# Altium schematic symbol library ToradexMainBoard-V0I1.SCHLIB: 303 symbols (part 1 of 14)
Pins are listed as number, name and electrical type; pins without a type are passive.

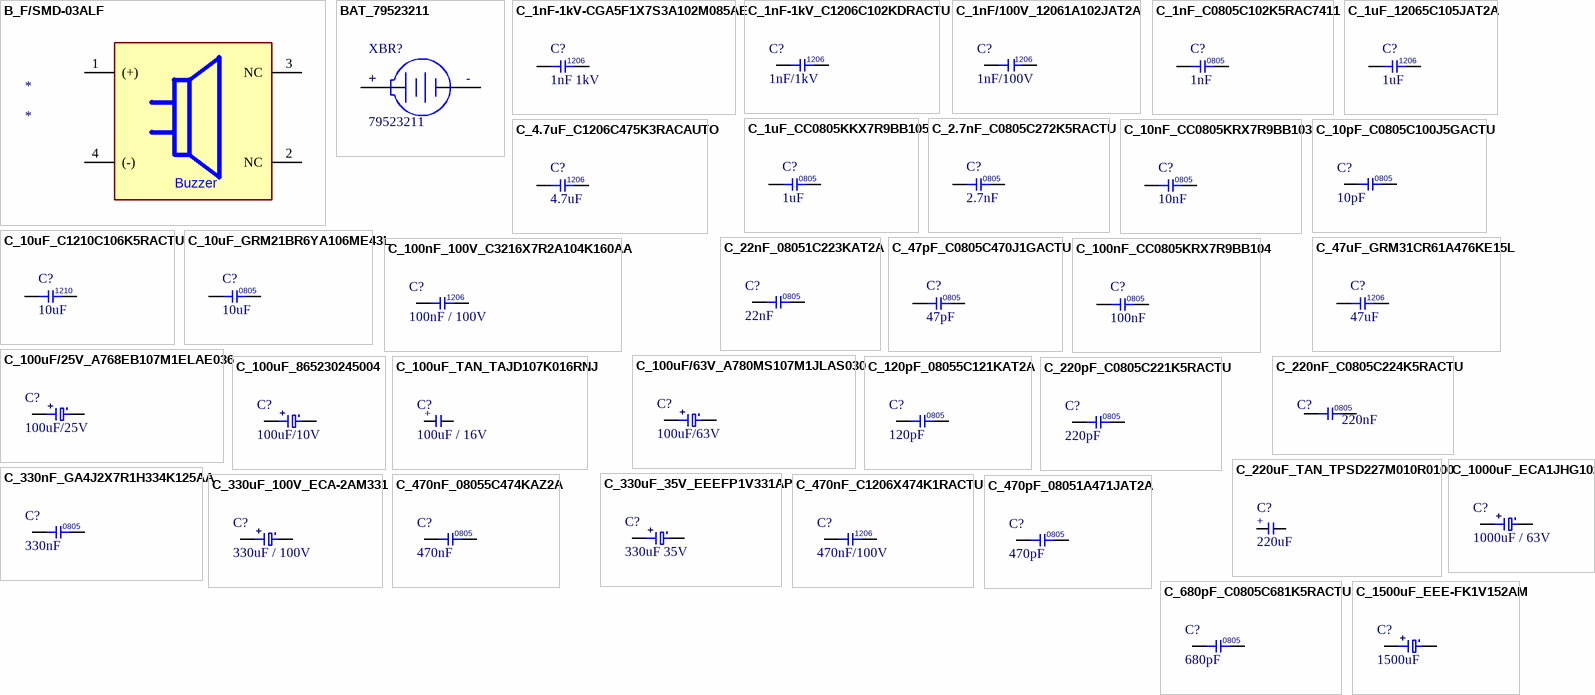
[diagram p0: symbols B_F/SMD-03ALF to C_1500uF_EEE-FK1V152AM]

## B_F/SMD-03ALF
designator *
footprint F/SMD-03_Buzzer
pins: 1 (+), 2 NC, 3 NC, 4 (-)
text: Buzzer

## BAT_79523211
designator XBR?, comment 79523211
BATTERY RETAINER COIN PC PIN THT for 2016, 2020, 2025 2032.; Manufacturer: Wurth Electronics; Number of Cells: 1; PCBChecked: initials after Checked; Supplier 1: Digi-Key; Manufacturer Part Number: 79523211; RoHS: No; Mount: Through Hole,PCB; Termination: PC Pin; ComponentLink1URL: https://datasheet.ciiva.com/70868/79523211-70868826.pdf?src-supplier=Digi-Key; ComponentLink1Description: https://datasheet.ciiva.com/70868/79523211-70868826.pdf?src-supplier=Digi-Key; Supplier Part Number 1: 732-12324-ND; Stock 1: 697; IPC7352C: done; SCHChecked: Initials after checked
footprint BAT_79523211-with-Battery (Battery Holder, Battery Type: 2016,2020,2025,2032)
pins: 1 +, 2 -

## C_1nF-1kV-CGA5F1X7S3A102M085AE
designator C?, comment 1nF 1kV
CAP CER 1000PF 1KV X7S 1206; Manufacturer: TDK; Manufacturer Part Number: CGA5F1X7S3A102M085AE; Tolerance: 20%; Supplier 1: Mouser; RoHS: Yes; Category: Ceramic Capacitors; Stock 1: 11858; Pricing 1: 1=0,94000, 10=0,71800, 100=0,51400, 500=0,39800, 1000=0,34300, 4000=0,25700 (USD); Mount: Surface Mount; Case/Package: 1206; Weight: 0.000571oz; Case Code (Imperial): 1206; Case Code (Metric): 3216; Min Operating Temperature: -55°C; Max Operating Temperature: 125°C; Features: Soft Termination; Dielectric: X7S; Package Quantity: 4000; Packaging: Tape and Reel; Capacitance: 1nF; Voltage Rating: 1kV; Termination: SMD/SMT; Voltage Rating (DC): 1kV; Length: 0.126inch; Height: 0.85mm; Width: 0.063inch; Thickness: 0.039inch; Ratings: AEC-Q200; ComponentLink1URL: http://www.mouser.com/ds/2/400/lcc_commercial_soft_en-775842.pdf?src-supplier=Mouser; ComponentLink1Description: http://www.mouser.com/ds/2/400/lcc_commercial_soft_en-775842.pdf?src-supplier=Mouser; ComponentLink2URL: https://product.tdk.com/info/en/catalog/spec/mlccspec_automotive_highvoltage_en.pdf?src-supplier=Digi-Key; ComponentLink2Description: https://product.tdk.com/info/en/catalog/spec/mlccspec_automotive_highvoltage_en.pdf?src-supplier=Digi-Key; ComponentLink3URL: https://product.tdk.com/info/en/catalog/datasheets/mlcc_automotive_highvoltage_en.pdf?src-supplier=Digi-Key; ComponentLink3Description: https://product.tdk.com/info/en/catalog/datasheets/mlcc_automotive_highvoltage_en.pdf?src-supplier=Digi-Key; ComponentLink4URL: http://product.tdk.com/capacitor/mlcc/en/documents/mlcc_automotive_soft_en.pdf?src-supplier=Avnet; ComponentLink4Description: http://product.tdk.com/capacitor/mlcc/en/documents/mlcc_automotive_soft_en.pdf?src-supplier=Avnet; Supplier Part Number 1: 810-CGA5F1X7S3A102ME
footprint C1206 (Chip Capacitor, 2-Leads, Body 3,35x2,50mm, IPC Medium Density)
pins: 1, 2

## C_1nF-1kV_C1206C102KDRACTU
designator C?, comment 1nF/1kV
Capacitor Ceramic 0.001uF 1000 Volt X7R 10% Surface Mount 1206 125C Plastic; Manufacturer: KEMET; Manufacturer Part Number: C1206C102KDRACTU; Capacitance: 1nF; Voltage Rating (DC): 1.5kV; Voltage: 2kV; Voltage Rating: 1kV; Supplier 1: Farnell; RoHS: Yes; Category: Ceramic Capacitors; Stock 1: 70088; Pricing 1: 5=0,23900, 50=0,12400, 250=0,09660, 500=0,06910 (EUR); Mount: Surface Mount; Case/Package: 1206; Number of Pins: 2; Dielectric Material: Ceramic; Case Code (Imperial): 1206; Case Code (Metric): 3216; Min Operating Temperature: -55°C; Max Operating Temperature: 125°C; Packaging: Tape and Reel; Tolerance: 10%; Dielectric: X7R; Package Quantity: 1; Termination: SMD/SMT; Series: C; Construction: Flat; Length: 3.2mm; Width: 0.063inch; Height: 1.2mm; Depth: 1.6mm; Thickness: 0.053inch; Lead Pitch: 1.5mm; Radiation Hardening: No; REACH SVHC: No SVHC; RoHS Compliant: Yes; ComponentLink1URL: https://datasheet.ciiva.com/18194/getdatasheetpartid-320277-18194094.pdf?src-supplier=Verical; ComponentLink1Description: https://datasheet.ciiva.com/18194/getdatasheetpartid-320277-18194094.pdf?src-supplier=Verical; ComponentLink2URL: https://datasheet.ciiva.com/19476/1567931-19476446.pdf?src-supplier=Jameco; ComponentLink2Description: https://datasheet.ciiva.com/19476/1567931-19476446.pdf?src-supplier=Jameco; ComponentLink3URL: https://datasheet.ciiva.com/28672/1807957-28672853.pdf?src-supplier=Element14; ComponentLink3Description: https://datasheet.ciiva.com/28672/1807957-28672853.pdf?src-supplier=Element14; ComponentLink4URL: https://datasheet.ciiva.com/22700/1812017-22700535.pdf?src-supplier=Element14; ComponentLink4Description: https://datasheet.ciiva.com/22700/1812017-22700535.pdf?src-supplier=Element14; ComponentLink5URL: https://datasheet.ciiva.com/28610/1918693-28610894.pdf?src-supplier=Element14; ComponentLink5Description: https://datasheet.ciiva.com/28610/1918693-28610894.pdf?src-supplier=Element14; ComponentLink6URL: https://datasheet.ciiva.com/5904/kem-c1002-x7r-smd-5904927.pdf?src-supplier=Farnell; ComponentLink6Description: https://datasheet.ciiva.com/5904/kem-c1002-x7r-smd-5904927.pdf?src-supplier=Farnell; Supplier Part Number 1: 1826304
footprint R1206
pins: 1, 2

## C_1nF/100V_12061A102JAT2A
designator C?, comment 1nF/100V
Cap Ceramic 0.001uF 100V C0G 5% SMD 1206 125 Paper T/R; Manufacturer: Kyocera AVX; Manufacturer Part Number: 12061A102JAT2A; Capacitance: 1nF; Insulation Resistance: 100GR; Temperature Coefficient: 30ppm/°C; Dissipation Factor: 2.5%; Supplier 1: Farnell; RoHS: Yes; Category: Ceramic Capacitors; Stock 1: 20000; Pricing 1: 4000=0,05250, 20000=0,05150 (EUR); Mount: Surface Mount,PCB; Case/Package: 1206; Number of Pins: 2; Case Code (Imperial): 1206; Case Code (Metric): 3216; Contact Plating: Tin,Matte; Min Operating Temperature: -55°C; Max Operating Temperature: 125°C; Tolerance: 5%; Dielectric: C0G; Packaging: Tape and Reel; Voltage Rating (DC): 100V; Voltage: 100V; Voltage Rating: 100V; Package Quantity: 1; Termination: SMD/SMT; Series: -; Construction: Flat; Length: 3.2mm; Width: 1.6mm; Height: 0.5mm; Depth: 1.6mm; Thickness: 0.037inch; Size: 0.94mm; Radiation Hardening: No; REACH SVHC: No SVHC; Lead Free: Lead Free; RoHS Compliant: Yes; ComponentLink1URL: https://datasheet.ciiva.com/11787/0900766b802d4697-11787576.pdf?src-supplier=RSComponents; ComponentLink1Description: https://datasheet.ciiva.com/11787/0900766b802d4697-11787576.pdf?src-supplier=RSComponents; ComponentLink2URL: https://datasheet.ciiva.com/19476/2012241-19476248.pdf?src-supplier=Jameco; ComponentLink2Description: https://datasheet.ciiva.com/19476/2012241-19476248.pdf?src-supplier=Jameco; ComponentLink3URL: https://datasheet.ciiva.com/11510/ccog-11510998.pdf?src-supplier=Avnet; ComponentLink3Description: https://datasheet.ciiva.com/11510/ccog-11510998.pdf?src-supplier=Avnet; ComponentLink4URL: https://datasheet.ciiva.com/5419/ccog-243403-5419032.pdf?src-supplier=Mouser; ComponentLink4Description: https://datasheet.ciiva.com/5419/ccog-243403-5419032.pdf?src-supplier=Mouser; ComponentLink5URL: https://datasheet.ciiva.com/16389/ccog-16389160.pdf?src-supplier=Future+Electronics; ComponentLink5Description: https://datasheet.ciiva.com/16389/ccog-16389160.pdf?src-supplier=Future+Electronics; ComponentLink6URL: https://datasheet.ciiva.com/16623/ccog-16623432.pdf?src-supplier=Avnet+Europe; ComponentLink6Description: https://datasheet.ciiva.com/16623/ccog-16623432.pdf?src-supplier=Avnet+Europe; ComponentLink7URL: https://datasheet.ciiva.com/28621/cpack-28621080.pdf?src-supplier=Element14; ComponentLink7Description: https://datasheet.ciiva.com/28621/cpack-28621080.pdf?src-supplier=Element14; ComponentLink8URL: https://datasheet.ciiva.com/153/ccog-153403.pdf?src-supplier=Digi-Key; ComponentLink8Description: https://datasheet.ciiva.com/153/ccog-153403.pdf?src-supplier=Digi-Key; ComponentLink9URL: https://datasheet.ciiva.com/153/ccog-153404.pdf?src-supplier=Digi-Key; ComponentLink9Description: https://datasheet.ciiva.com/153/ccog-153404.pdf?src-supplier=Digi-Key; ComponentLink10URL: https://datasheet.ciiva.com/153/ccog-153405.pdf?src-supplier=Digi-Key; ComponentLink10Description: https://datasheet.ciiva.com/153/ccog-153405.pdf?src-supplier=Digi-Key; Supplier Part Number 1: 2281031
footprint C1206
pins: 1, 2

## C_1nF_C0805C102K5RAC7411
designator C?, comment 1nF
Multilayer Ceramic Capacitors MLCC - SMD/SMT 50volts 1000pF X7R 10%; Manufacturer: KEMET; Manufacturer Part Number: C0805C102K5RAC7411; Voltage Rating: 50V; RoHS: Yes; Category: Ceramic Capacitors; Stock 1: 30000; Pricing 1: 15000=0,01862, 30000=0,01764 (USD); Mount: Surface Mount; Case/Package: 0805; Case Code (Metric): 2012; Case Code (Imperial): 0805; Dielectric Material: Ceramic; Min Operating Temperature: -55°C; Max Operating Temperature: 125°C; Termination: SMD/SMT; Capacitance: 1nF; Package Quantity: 15000; Voltage Rating (DC): 50V; Tolerance: 10%; Packaging: Tape and Reel; Dielectric: X7R; Length: 0.079inch; Height: 0.78mm; Thickness: 0.035inch; Width: 0.049inch; ComponentLink1URL: http://components.arrow.com/part/dataview/0323_00324664?src-supplier=Arrow+Europe; ComponentLink1Description: http://components.arrow.com/part/dataview/0323_00324664?src-supplier=Arrow+Europe; ComponentLink2URL: http://www.mouser.com/ds/2/212/KEM_C1002_X7R_SMD-1102033.pdf?src-supplier=Mouser; ComponentLink2Description: http://www.mouser.com/ds/2/212/KEM_C1002_X7R_SMD-1102033.pdf?src-supplier=Mouser; ComponentLink3URL: https://api.kemet.com/component-edge/download/datasheet/C0805C102K5RAC7411.pdf?src-supplier=Digi-Key; ComponentLink3Description: https://api.kemet.com/component-edge/download/datasheet/C0805C102K5RAC7411.pdf?src-supplier=Digi-Key; Supplier 1: Digi-Key; Supplier Part Number 1: 311-1127-1-ND
footprint C0805 (Chip Capacitor, 2-Leads, Body 2,00x1,25mm, IPC Medium Density)
pins: 1, 2

## C_1uF_12065C105JAT2A
designator C?, comment 1uF
CERAMIC CAPACITOR, 1UF, 50V, X7R, 5%, 1206, FULL REEL; Product Range:-; Capacitance:1 F; Capacitance Tolerance: 5%; Dielectric Characteristic:X7R; Voltage Rating:50V; Ceramic Capacitor Case:1206 [3216 Metric]; Packaging:Tape & Reel ;RoHS Compliant: Yes; Manufacturer Part Number: 12065C105JAT2A; Manufacturer: Kyocera AVX; Dissipation Factor: 2.5%; Supplier 1: Digi-Key; RoHS: Yes; Category: Ceramic Capacitors; Mount: Surface Mount; Case/Package: 1206; Number of Pins: 2; Case Code (Metric): 3216; Case Code (Imperial): 1206; Min Operating Temperature: -55°C; Max Operating Temperature: 125°C; Dielectric: X7R; Capacitance: 1uF; Tolerance: 5%; Voltage Rating: 50V; Packaging: Tape and Reel; Package Quantity: 2000; Voltage Rating (DC): 50V; Termination: SMD/SMT; Length: 3.2mm; Height: 1.78mm; Width: 0.063inch; Thickness: 0.07inch; Depth: 1.6mm; Radiation Hardening: No; REACH SVHC: No SVHC; Lead Free: Lead Free; ComponentLink1URL: https://datasheet.ciiva.com/218/cx7r-218525.pdf?src-supplier=Digi-Key; ComponentLink1Description: https://datasheet.ciiva.com/218/cx7r-218525.pdf?src-supplier=Digi-Key; ComponentLink2URL: https://datasheet.ciiva.com/5422/cx7r-218113-5422269.pdf?src-supplier=Mouser; ComponentLink2Description: https://datasheet.ciiva.com/5422/cx7r-218113-5422269.pdf?src-supplier=Mouser; ComponentLink3URL: https://datasheet.ciiva.com/11531/cx7r-11531662.pdf?src-supplier=Avnet; ComponentLink3Description: https://datasheet.ciiva.com/11531/cx7r-11531662.pdf?src-supplier=Avnet; Supplier Part Number 1: 478-10884-1-ND; Stock 1: 10741
footprint C1206 (Chip Capacitor, 2-Leads, Body 3,35x2,50mm, IPC Medium Density)
pins: 1, 2

## C_1uF_CC0805KKX7R9BB105
designator C?, comment 1uF
Cap Ceramic 1uF 50V X7R 10% SMD 0805 125C Blister T/R; Manufacturer Part Number: CC0805KKX7R9BB105; Manufacturer: Yageo; PCBChecked: initials after Checked; Supplier 1: Digi-Key; RoHS: Yes; Category: Ceramic Capacitors; Mount: Surface Mount; Case/Package: 0805; Weight: 0.000194oz; Case Code (Imperial): 0805; Case Code (Metric): 2012; Min Operating Temperature: -55°C; Max Operating Temperature: 125°C; Tolerance: 10%; Dielectric: X7R; Packaging: Tape and Reel; Capacitance: 1uF; Voltage Rating: 50V; Voltage Rating (DC): 50V; Termination: SMD/SMT; Composition: Ceramic; Length: 2mm; Height: 1.25mm; Width: 0.049inch; Thickness: 0.057inch; Depth: 1.25mm; Radiation Hardening: No; Lead Free: Lead Free; Halogen Free: Halogen Free; ComponentLink1URL: https://datasheet.ciiva.com/13209/upy-gphc-x7r-6-3v-to-50v-8-12304-13209375.pdf?src-supplier=Mouser; ComponentLink1Description: https://datasheet.ciiva.com/13209/upy-gphc-x7r-6-3v-to-50v-8-12304-13209375.pdf?src-supplier=Mouser; Supplier Part Number 1: 311-1886-6-ND; Stock 1: 325114; IPC7352C: done; SCHChecked: Initials after checked
footprint C0805 (Chip Capacitor, 2-Leads, Body 2,00x1,25mm, IPC Medium Density)
pins: 1, 2

## C_2.7nF_C0805C272K5RACTU
designator C?, comment 2.7nF
KEMET         C0805C272K5RACTU             SMD Multilayer Ceramic Capacitor, 0805 [2012 Metric], 2700 pF, 50 V,  10%, X7R, C Series; Voltage Rating: 50V; Dissipation Factor: 2.5%; Supplier 1: Digi-Key; Manufacturer: KEMET; Manufacturer Part Number: C0805C272K5RACTU; RoHS: Yes; Category: Ceramic Capacitors; Stock 1: 17634; Pricing 1: 1=0,21000, 10=0,14200, 100=0,07210, 500=0,04934, 1000=0,04364 (USD); Mount: Surface Mount,PCB; Case/Package: 0805; Number of Pins: 2; Dielectric Material: Ceramic; Case Code (Imperial): 0805; Case Code (Metric): 2012; Min Operating Temperature: -55°C; Max Operating Temperature: 125°C; Capacitance: 2.7nF; Tolerance: 10%; Packaging: Tape and Reel; Voltage Rating (DC): 50V; Dielectric: X7R; Termination: SMD/SMT; Package Quantity: 4000; Voltage: 50V; Length: 2mm; Height: 0.78mm; Width: 1.2mm; Lead Pitch: 0.75mm; Depth: 1.25mm; Thickness: 0.035inch; Radiation Hardening: No; REACH SVHC: No SVHC; ComponentLink1URL: https://datasheet.ciiva.com/14589/70095383-14589404.pdf?src-supplier=Allied+Electronics; ComponentLink1Description: https://datasheet.ciiva.com/14589/70095383-14589404.pdf?src-supplier=Allied+Electronics; Supplier Part Number 1: 399-1152-1-ND
footprint C0805 (Chip Capacitor, 2-Leads, Body 2,00x1,25mm, IPC Medium Density)
pins: 1, 2

## C_4.7uF_C1206C475K3RACAUTO
designator C?, comment 4.7uF
KEMET - C1206C475K3RACAUTO - SMD Multilayer Ceramic Capacitor, AEC-Q200, 4.7 µF, 25 V, 1206 [3216 Metric], ± 10%, X7R; Voltage Rating: 25V; Supplier 1: Digi-Key; Manufacturer Part Number: C1206C475K3RACAUTO; RoHS: Yes; Category: Ceramic Capacitors; Mount: Surface Mount; Case/Package: 1206; Case Code (Imperial): 1206; Case Code (Metric): 3216; Dielectric Material: Ceramic; Contact Plating: Tin,Matte; Min Operating Temperature: -55°C; Max Operating Temperature: 125°C; Package Quantity: 1; Capacitance: 4.7uF; Tolerance: 10%; Packaging: Cut Tape; Voltage Rating (DC): 25V; Dielectric: X7R; Length: 3.2mm; Height: 1.6mm; Width: 0.063inch; Thickness: 0.071inch; Depth: 1.6mm; Ratings: AEC-Q200; Radiation Hardening: No; REACH SVHC: No SVHC; ComponentLink1URL: https://datasheet.ciiva.com/7729/1788389-7729946.pdf?src-supplier=Element14; ComponentLink1Description: https://datasheet.ciiva.com/7729/1788389-7729946.pdf?src-supplier=Element14; ComponentLink2URL: https://datasheet.ciiva.com/22699/1788389-22699772.pdf?src-supplier=Element14; ComponentLink2Description: https://datasheet.ciiva.com/22699/1788389-22699772.pdf?src-supplier=Element14; Supplier Part Number 1: 399-7029-6-ND; Manufacturer: KEMET; Stock 1: 70225
footprint C1206 (Chip Capacitor, 2-Leads, Body 3,35x2,50mm, IPC Medium Density)
pins: 1, 2

## C_10nF_CC0805KRX7R9BB103
designator C?, comment 10nF
YAGEO - CC0805KRX7R9BB103 - SMD Multilayer Ceramic Capacitor, 10000 pF, 50 V, 0805 [2012 Metric], ± 10%, X7R, CC Series; Voltage Rating: 50V; Insulation Resistance: 100GR; Supplier 1: Digi-Key; Manufacturer: Yageo; Manufacturer Part Number: CC0805KRX7R9BB103; RoHS: Yes; Category: Ceramic Capacitors; Stock 1: 6490145; Pricing 1: 1=0,11000, 10=0,07700, 100=0,03440, 500=0,02456, 1000=0,01930 (USD); Mount: Surface Mount; Case/Package: 0805; Number of Pins: 2; Case Code (Imperial): 0805; Case Code (Metric): 2012; Material: Ceramic; Min Operating Temperature: -55°C; Max Operating Temperature: 125°C; Packaging: Tape and Reel; Capacitance: 10nF; Tolerance: 10%; Package Quantity: 1; Voltage Rating (DC): 50V; Dielectric: X7R; Termination: SMD/SMT; Composition: Ceramic; Voltage: 50V; Length: 2mm; Height: 0.6mm; Width: 1.25mm; Thickness: 0.024inch; Depth: 1.25mm; Radiation Hardening: No; REACH SVHC: No SVHC; Lead Free: Lead Free; Halogen Free: Halogen Free; ComponentLink1URL: https://datasheet.ciiva.com/11786/0900766b80d84f1d-11786119.pdf?src-supplier=RSComponents; ComponentLink1Description: https://datasheet.ciiva.com/11786/0900766b80d84f1d-11786119.pdf?src-supplier=RSComponents; ComponentLink2URL: https://datasheet.ciiva.com/25613/0900766b8027bcf6-25613113.pdf?src-supplier=RSComponents; ComponentLink2Description: https://datasheet.ciiva.com/25613/0900766b8027bcf6-25613113.pdf?src-supplier=RSComponents; ComponentLink3URL: https://datasheet.ciiva.com/144/mlccorderingcode-144532.pdf?src-supplier=Digi-Key; ComponentLink3Description: https://datasheet.ciiva.com/144/mlccorderingcode-144532.pdf?src-supplier=Digi-Key; ComponentLink4URL: https://datasheet.ciiva.com/144/mlccorderingcode-144533.pdf?src-supplier=Digi-Key; ComponentLink4Description: https://datasheet.ciiva.com/144/mlccorderingcode-144533.pdf?src-supplier=Digi-Key; ComponentLink5URL: https://datasheet.ciiva.com/144/mlccorderingcode-144534.pdf?src-supplier=Digi-Key; ComponentLink5Description: https://datasheet.ciiva.com/144/mlccorderingcode-144534.pdf?src-supplier=Digi-Key; ComponentLink6URL: https://datasheet.ciiva.com/16625/upy-gphc-x7r-6-3v-to-50v-8-16625548.pdf?src-supplier=Avnet+Europe; ComponentLink6Description: https://datasheet.ciiva.com/16625/upy-gphc-x7r-6-3v-to-50v-8-16625548.pdf?src-supplier=Avnet+Europe; ComponentLink7URL: https://datasheet.ciiva.com/46372/1784427-46372638.pdf?src-supplier=Element14; ComponentLink7Description: https://datasheet.ciiva.com/46372/1784427-46372638.pdf?src-supplier=Element14; Supplier Part Number 1: 311-1136-1-ND
footprint C0805 (Chip Capacitor, 2-Leads, Body 2,00x1,25mm, IPC Medium Density)
pins: 1, 2

## C_10pF_C0805C100J5GACTU
designator C?, comment 10pF
KEMET - C0805C100J5GACTU - SMD Multilayer Ceramic Capacitor, 10 pF, 50 V, 0805 [2012 Metric], ± 5%, C0G / NP0, C Series KEMET; Voltage Rating: 50V; Dissipation Factor: 0.1%; Temperature Coefficient: 30ppm/°C; Supplier 1: Farnell; Manufacturer: KEMET; Manufacturer Part Number: C0805C100J5GACTU; RoHS: Yes; Category: Ceramic Capacitors; Stock 1: 40000; Pricing 1: 4000=0,01400 (EUR); Mount: PCB,Surface Mount; Case/Package: 0805; Number of Pins: 2; Case Code (Metric): 2012; Case Code (Imperial): 0805; Dielectric Material: Ceramic; Contact Plating: Tin,Matte; Contact Material: Tin; Min Operating Temperature: -55°C; Max Operating Temperature: 125°C; Capacitance: 10pF; Package Quantity: 4000; Packaging: Tape and Reel; Dielectric: C0G; Voltage Rating (DC): 50V; Termination: SMD/SMT; Tolerance: 5%; Series: C0805C; Construction: Flat; Voltage: 50V; Length: 2mm; Width: 1.2mm; Height: 0.78mm; Thickness: 0.035inch; Depth: 1.25mm; Lead Pitch: 0.75mm; Radiation Hardening: No; RoHS Compliant: Yes; Lead Free: Lead Free; REACH SVHC: No SVHC; ComponentLink1URL: https://datasheet.ciiva.com/6177/kem-c1003-c0g-smd-6177333.pdf?src-supplier=Farnell; ComponentLink1Description: https://datasheet.ciiva.com/6177/kem-c1003-c0g-smd-6177333.pdf?src-supplier=Farnell; ComponentLink2URL: https://datasheet.ciiva.com/5423/kem-c1003-c0g-smd-356956-5423483.pdf?src-supplier=Mouser; ComponentLink2Description: https://datasheet.ciiva.com/5423/kem-c1003-c0g-smd-356956-5423483.pdf?src-supplier=Mouser; ComponentLink3URL: https://datasheet.ciiva.com/14609/70095383-14609227.pdf?src-supplier=Allied+Electronics; ComponentLink3Description: https://datasheet.ciiva.com/14609/70095383-14609227.pdf?src-supplier=Allied+Electronics; ComponentLink4URL: https://datasheet.ciiva.com/2988/kem-c1003-c0g-smd-2988556.pdf?src-supplier=Avnet; ComponentLink4Description: https://datasheet.ciiva.com/2988/kem-c1003-c0g-smd-2988556.pdf?src-supplier=Avnet; Supplier Part Number 1: 2392177
footprint C0805
pins: 1, 2

## C_10uF_C1210C106K5RACTU
designator C?, comment 10uF
CAP CER 10UF 50V X7R 1210; Manufacturer: KEMET; Manufacturer Part Number: C1210C106K5RACTU; Dielectric Material: Ceramic; Tolerance: 10%; Supplier 1: Digi-Key; RoHS: Yes; Category: Ceramic Capacitors; Stock 1: 21988; Pricing 1: 1=0,90000, 10=0,66400, 100=0,45540, 500=0,36052 (USD); Mount: Surface Mount; Case/Package: 1210; Weight: 0.000564oz; Case Code (Metric): 3225; Case Code (Imperial): 1210; Min Operating Temperature: -55°C; Max Operating Temperature: 125°C; Packaging: Tape and Reel; Voltage Rating: 50V; Voltage: 50V; Dielectric: X7R; Termination: SMD/SMT; Voltage Rating (DC): 50V; Package Quantity: 1000; Capacitance: 10uF; Length: 3.2mm; Height: 2.5mm; Width: 2.5mm; Thickness: 0.11inch; Depth: 2.5mm; REACH SVHC: No SVHC; ComponentLink1URL: http://www.mouser.com/ds/2/212/KEM_C1002_X7R_SMD-357932.pdf?src-supplier=Mouser; ComponentLink1Description: http://www.mouser.com/ds/2/212/KEM_C1002_X7R_SMD-357932.pdf?src-supplier=Mouser; ComponentLink2URL: http://uk.rs-online.com/webdocs/1515/0900766b8151523b.pdf?src-supplier=RSComponents; ComponentLink2Description: http://uk.rs-online.com/webdocs/1515/0900766b8151523b.pdf?src-supplier=RSComponents; ComponentLink3URL: http://www.farnell.com/datasheets/2740742.pdf?src-supplier=Farnell; ComponentLink3Description: http://www.farnell.com/datasheets/2740742.pdf?src-supplier=Farnell; ComponentLink4URL: https://api.kemet.com/component-edge/download/datasheet/C1210C106K5RACTU.pdf?src-supplier=Digi-Key; ComponentLink4Description: https://api.kemet.com/component-edge/download/datasheet/C1210C106K5RACTU.pdf?src-supplier=Digi-Key; ComponentLink5URL: http://capacitoredge.kemet.com/capedge2/DataSheet/Datasheet-C0402C471J3GACTU.pdf?pn=C1210C106K5RACTU&src-supplier=Avnet; ComponentLink5Description: http://capacitoredge.kemet.com/capedge2/DataSheet/Datasheet-C0402C471J3GACTU.pdf?pn=C1210C106K5RACTU&src-supplier=Avnet; ComponentLink6URL: http://www.farnell.com/datasheets/2740742.pdf?src-supplier=Element14; ComponentLink6Description: http://www.farnell.com/datasheets/2740742.pdf?src-supplier=Element14; ComponentLink7URL: http://capacitoredge.kemet.com/capedge2/DataSheet/Datasheet-C1210C106K5RACTU.pdf?pn=C1210C106K5RACTU&src-supplier=Avnet; ComponentLink7Description: http://capacitoredge.kemet.com/capedge2/DataSheet/Datasheet-C1210C106K5RACTU.pdf?pn=C1210C106K5RACTU&src-supplier=Avnet; ComponentLink8URL: http://www.farnell.com/datasheets/1886292.pdf?src-supplier=Newark; ComponentLink8Description: http://www.farnell.com/datasheets/1886292.pdf?src-supplier=Newark; ComponentLink9URL: http://www.farnell.com/datasheets/2740742.pdf?src-supplier=Newark; ComponentLink9Description: http://www.farnell.com/datasheets/2740742.pdf?src-supplier=Newark; Supplier Part Number 1: 399-11629-1-ND
footprint C1210 (Chip Capacitor, 2-Leads, Body 3.40x2.70mm, IPC High Density)
pins: 1, 2

## C_10uF_GRM21BR6YA106ME43L
designator C?, comment 10uF
0805 10 uF 50 V ±20% Tolerance X5R Multilayer Ceramic Capacitor; Manufacturer: Murata; Manufacturer Part Number: GRM21BR6YA106ME43L; Voltage Rating: 35V; Supplier 1: Digi-Key; RoHS: Yes; Category: Ceramic Capacitors; Stock 1: 143980; Pricing 1: 1=0,48000, 10=0,33200, 100=0,19920, 500=0,14942, 1000=0,12617 (USD); Mount: Surface Mount; Case/Package: 0805; Weight: 0.000335oz; Case Code (Imperial): 0805; Case Code (Metric): 2012; Min Operating Temperature: -55°C; Max Operating Temperature: 85°C; Tolerance: 20%; Capacitance: 10uF; Packaging: Tape and Reel; Dielectric: X5R; Termination: SMD/SMT; Voltage Rating (DC): 35V; Package Quantity: 3000; Length: 0.079inch; Height: 1.25mm; Width: 0.049inch; Thickness: 0.057inch; ComponentLink1URL: http://www.mouser.com/ds/2/281/c02e-2905.pdf?src-supplier=Mouser; ComponentLink1Description: http://www.mouser.com/ds/2/281/c02e-2905.pdf?src-supplier=Mouser; ComponentLink2URL: http://search.murata.co.jp/Ceramy/image/img/A01X/G101/ENG/GRM21BR6YA106ME43-01.pdf?src-supplier=Digi-Key; ComponentLink2Description: http://search.murata.co.jp/Ceramy/image/img/A01X/G101/ENG/GRM21BR6YA106ME43-01.pdf?src-supplier=Digi-Key; Supplier Part Number 1: 490-10515-6-ND
footprint C0805 (Chip Capacitor, 2-Leads, Body 2,00x1,25mm, IPC Medium Density)
pins: 1, 2

## C_22nF_08051C223KAT2A
designator C?, comment 22nF
Multilayer Ceramic Capacitors MLCC - SMD/SMT 100V .022uF X7R 0805 10% Tol; Manufacturer: Kyocera AVX; Manufacturer Part Number: 08051C223KAT2A; Insulation Resistance: 100GR; Supplier 1: Farnell; RoHS: Yes; Category: Ceramic Capacitors; Stock 1: 2203; Pricing 1: 10=0,09270, 100=0,07470, 500=0,04300, 1000=0,03970, 2000=0,03310, 4000=0,02880, 20000=0,02440 (EUR); Mount: Surface Mount,PCB; Case/Package: 0805; Number of Pins: 2; Case Code (Metric): 2012; Case Code (Imperial): 0805; Dielectric Material: Ceramic; Weight: 0.000194oz; Contact Plating: Tin,Matte; Min Operating Temperature: -55°C; Max Operating Temperature: 125°C; Capacitance: 22nF; Tolerance: 10%; Packaging: Tape and Reel; Package Quantity: 1; Voltage Rating: 100V; Voltage Rating (DC): 100V; Dielectric: X7R; Termination: SMD/SMT; Voltage: 100V; Dissipation Factor: 10%; Length: 2.01mm; Width: 0.049inch; Height: 0.94mm; Depth: 1.25mm; Thickness: 0.037inch; Radiation Hardening: No; Lead Free: Lead Free; REACH SVHC: No SVHC; ComponentLink1URL: https://datasheet.ciiva.com/151/cx7r-151568.pdf?src-supplier=Digi-Key; ComponentLink1Description: https://datasheet.ciiva.com/151/cx7r-151568.pdf?src-supplier=Digi-Key; ComponentLink2URL: https://datasheet.ciiva.com/2987/cx7r-2987939.pdf?src-supplier=Avnet; ComponentLink2Description: https://datasheet.ciiva.com/2987/cx7r-2987939.pdf?src-supplier=Avnet; ComponentLink3URL: https://datasheet.ciiva.com/16536/cx7r-16536953.pdf?src-supplier=Avnet+Asia; ComponentLink3Description: https://datasheet.ciiva.com/16536/cx7r-16536953.pdf?src-supplier=Avnet+Asia; ComponentLink4URL: https://datasheet.ciiva.com/14597/70001075-14597227.pdf?src-supplier=Allied+Electronics; ComponentLink4Description: https://datasheet.ciiva.com/14597/70001075-14597227.pdf?src-supplier=Allied+Electronics; ComponentLink5URL: https://datasheet.ciiva.com/14590/70001075-14590236.pdf?src-supplier=Allied+Electronics; ComponentLink5Description: https://datasheet.ciiva.com/14590/70001075-14590236.pdf?src-supplier=Allied+Electronics; ComponentLink6URL: https://datasheet.ciiva.com/151/cx7r-151566.pdf?src-supplier=Digi-Key; ComponentLink6Description: https://datasheet.ciiva.com/151/cx7r-151566.pdf?src-supplier=Digi-Key; ComponentLink7URL: https://datasheet.ciiva.com/48739/1679506-48739630.pdf?src-supplier=Newark; ComponentLink7Description: https://datasheet.ciiva.com/48739/1679506-48739630.pdf?src-supplier=Newark; ComponentLink8URL: https://datasheet.ciiva.com/151/cx7r-151567.pdf?src-supplier=Digi-Key; ComponentLink8Description: https://datasheet.ciiva.com/151/cx7r-151567.pdf?src-supplier=Digi-Key; ComponentLink9URL: https://datasheet.ciiva.com/5411/cx7r-218113-5411727.pdf?src-supplier=Mouser; ComponentLink9Description: https://datasheet.ciiva.com/5411/cx7r-218113-5411727.pdf?src-supplier=Mouser; Supplier Part Number 1: 1740680
footprint C0805
pins: 1, 2

## C_47pF_C0805C470J1GACTU
designator C?, comment 47pF
Capacitor: ceramic; MLCC; 47pF; 100V; C0G; ±5%; SMD; 0805; Manufacturer Part Number: C0805C470J1GACTU; Manufacturer: KEMET; Temperature Coefficient: 30ppm/°C; Supplier 1: Digi-Key; RoHS: Yes; Category: Ceramic Capacitors; Mount: Surface Mount; Case/Package: 0805; Number of Pins: 2; Case Code (Metric): 2012; Case Code (Imperial): 0805; Contact Material: Tin; Dielectric Material: Ceramic; Min Operating Temperature: -55°C; Max Operating Temperature: 125°C; Capacitance: 47pF; Tolerance: 5%; Packaging: Tape and Reel; Voltage Rating: 100V; Package Quantity: 1; Voltage Rating (DC): 100V; Dielectric: C0G; Termination: SMD/SMT; Voltage: 100V; Length: 2mm; Height: 0.78mm; Width: 0.049inch; Thickness: 0.035inch; Lead Pitch: 0.75mm; Depth: 1.25mm; Radiation Hardening: No; REACH SVHC: No SVHC; Lead Free: Lead Free; ComponentLink1URL: https://datasheet.ciiva.com/28668/1789732-28668806.pdf?src-supplier=Element14; ComponentLink1Description: https://datasheet.ciiva.com/28668/1789732-28668806.pdf?src-supplier=Element14; ComponentLink2URL: https://datasheet.ciiva.com/7842/40889-7842330.pdf?src-supplier=Element14; ComponentLink2Description: https://datasheet.ciiva.com/7842/40889-7842330.pdf?src-supplier=Element14; ComponentLink3URL: https://datasheet.ciiva.com/22705/40889-22705466.pdf?src-supplier=Element14; ComponentLink3Description: https://datasheet.ciiva.com/22705/40889-22705466.pdf?src-supplier=Element14; ComponentLink4URL: https://datasheet.ciiva.com/11463/kem-c1003-c0g-smd-11463581.pdf?src-supplier=Avnet; ComponentLink4Description: https://datasheet.ciiva.com/11463/kem-c1003-c0g-smd-11463581.pdf?src-supplier=Avnet; ComponentLink5URL: https://datasheet.ciiva.com/16624/kem-c1003-c0g-smd-16624990.pdf?src-supplier=Avnet+Europe; ComponentLink5Description: https://datasheet.ciiva.com/16624/kem-c1003-c0g-smd-16624990.pdf?src-supplier=Avnet+Europe; Supplier Part Number 1: 399-8079-1-ND; Stock 1: 31116
footprint C0805 (Chip Capacitor, 2-Leads, Body 2,00x1,25mm, IPC Medium Density)
pins: 1, 2

## C_47uF_GRM31CR61A476KE15L
designator C?, comment 47uF
Multilayer Ceramic Capacitors MLCC - SMD/SMT 1206 47uF 10Vdc X5R +/-10%; Manufacturer Part Number: GRM31CR61A476KE15L; Manufacturer: Murata; Voltage: 10V; Tolerance: 10%; Supplier 1: Digi-Key; RoHS: Yes; Category: Ceramic Capacitors; Mount: Surface Mount; Case/Package: 1206; Material: Ceramic; Case Code (Metric): 3216; Case Code (Imperial): 1206; Min Operating Temperature: -55°C; Max Operating Temperature: 85°C; Termination: SMD/SMT; Dielectric: X5R; Package Quantity: 2000; Packaging: Tape and Reel; Capacitance: 47uF; Voltage Rating: 10V; Voltage Rating (DC): 10V; Length: 3.2mm; Height: 1.6mm; Thickness: 0.071inch; Depth: 1.6mm; Width: 1.6mm; Lead Free: Lead Free; REACH SVHC: No SVHC; ComponentLink1URL: https://datasheet.ciiva.com/29536/grm31cr61a476ke15-01-29536840.pdf?src-supplier=Digi-Key; ComponentLink1Description: https://datasheet.ciiva.com/29536/grm31cr61a476ke15-01-29536840.pdf?src-supplier=Digi-Key; ComponentLink2URL: https://datasheet.ciiva.com/13337/product-13337807.pdf?src-supplier=Mouser; ComponentLink2Description: https://datasheet.ciiva.com/13337/product-13337807.pdf?src-supplier=Mouser; ComponentLink3URL: https://datasheet.ciiva.com/46445/1769893-46445004.pdf?src-supplier=Element14; ComponentLink3Description: https://datasheet.ciiva.com/46445/1769893-46445004.pdf?src-supplier=Element14; ComponentLink4URL: https://datasheet.ciiva.com/41860/partnumbering-e-01-41860758.pdf?src-supplier=Digi-Key; ComponentLink4Description: https://datasheet.ciiva.com/41860/partnumbering-e-01-41860758.pdf?src-supplier=Digi-Key; ComponentLink5URL: https://datasheet.ciiva.com/46445/1769893-46445005.pdf?src-supplier=Element14; ComponentLink5Description: https://datasheet.ciiva.com/46445/1769893-46445005.pdf?src-supplier=Element14; Supplier Part Number 1: 490-9673-6-ND; Stock 1: 70720
footprint C1206 (Chip Capacitor, 2-Leads, Body 3,35x2,50mm, IPC Medium Density)
pins: 1, 2

## C_100nF_100V_C3216X7R2A104K160AA
designator C?, comment 100nF / 100V
CAP CER 0.1UF 100V X7R 1206; Manufacturer: TDK; Manufacturer Part Number: C3216X7R2A104K160AA; Tolerance: 10%; Supplier 1: Farnell; RoHS: Yes; Category: Ceramic Capacitors; Stock 1: 84000; Pricing 1: 2000=0,07380, 10000=0,06540 (EUR); Mount: Surface Mount; Case/Package: 1206; Number of Pins: 2; Case Code (Imperial): 1206; Case Code (Metric): 3216; Weight: 0.000571oz; Min Operating Temperature: -55°C; Max Operating Temperature: 125°C; Dielectric: X7R; Termination: SMD/SMT; Capacitance: 100nF; Voltage Rating: 100V; Voltage Rating (DC): 100V; Packaging: Tape and Reel; Package Quantity: 2000; Resistor Type: Ceramic; Voltage: 100V; Length: 3.2mm; Width: 1.6mm; Height: 1.6mm; Depth: 1.6mm; Thickness: 0.051inch; Lead Free: Lead Free; REACH SVHC: No SVHC; ComponentLink1URL: https://datasheet.ciiva.com/24219/c3216x7r2a104k160aa-265140-24219488.pdf?src-supplier=Mouser; ComponentLink1Description: https://datasheet.ciiva.com/24219/c3216x7r2a104k160aa-265140-24219488.pdf?src-supplier=Mouser; ComponentLink2URL: https://datasheet.ciiva.com/11787/0900766b80fc5cba-11787710.pdf?src-supplier=RSComponents; ComponentLink2Description: https://datasheet.ciiva.com/11787/0900766b80fc5cba-11787710.pdf?src-supplier=RSComponents; ComponentLink3URL: https://datasheet.ciiva.com/22684/1484596-22684133.pdf?src-supplier=Element14; ComponentLink3Description: https://datasheet.ciiva.com/22684/1484596-22684133.pdf?src-supplier=Element14; ComponentLink4URL: https://datasheet.ciiva.com/22694/1484596-22694165.pdf?src-supplier=Element14; ComponentLink4Description: https://datasheet.ciiva.com/22694/1484596-22694165.pdf?src-supplier=Element14; ComponentLink5URL: https://datasheet.ciiva.com/7975/1484596-7975130.pdf?src-supplier=Element14; ComponentLink5Description: https://datasheet.ciiva.com/7975/1484596-7975130.pdf?src-supplier=Element14; Supplier Part Number 1: 2522145
footprint C1206
pins: 1, 2

## C_100nF_CC0805KRX7R9BB104
designator C?, comment 100nF
CAP CER 0.1UF 50V X7R 0805; Manufacturer Part Number: CC0805KRX7R9BB104; Manufacturer: Yageo; Material: Ceramic; Tolerance: 10%; Insulation Resistance: 100GR; PCBChecked: initials after Checked; Supplier 1: Digi-Key; RoHS: Yes; Category: Ceramic Capacitors; Mount: Surface Mount; Case/Package: 0805; Number of Pins: 2; Case Code (Metric): 2012; Case Code (Imperial): 0805; Min Operating Temperature: -55°C; Max Operating Temperature: 125°C; Packaging: Tape and Reel; Capacitance: 100nF; Voltage Rating: 50V; Package Quantity: 1; Dielectric: X7R; Termination: SMD/SMT; Voltage: 50V; Length: 2mm; Height: 0.85mm; Width: 0.049inch; Thickness: 0.033inch; Depth: 1.25mm; Radiation Hardening: No; REACH SVHC: No SVHC; Lead Free: Lead Free; Halogen Free: Halogen Free; ComponentLink1URL: https://datasheet.ciiva.com/11786/0900766b80d84f1d-11786009.pdf?src-supplier=RSComponents; ComponentLink1Description: https://datasheet.ciiva.com/11786/0900766b80d84f1d-11786009.pdf?src-supplier=RSComponents; ComponentLink2URL: https://datasheet.ciiva.com/11464/upy-gphc-x7r-6-3v-to-50v-8-11464757.pdf?src-supplier=Avnet; ComponentLink2Description: https://datasheet.ciiva.com/11464/upy-gphc-x7r-6-3v-to-50v-8-11464757.pdf?src-supplier=Avnet; ComponentLink3URL: https://datasheet.ciiva.com/28450/1489800-28450805.pdf?src-supplier=Element14; ComponentLink3Description: https://datasheet.ciiva.com/28450/1489800-28450805.pdf?src-supplier=Element14; ComponentLink4URL: https://datasheet.ciiva.com/155/mlccorderingcode-155929.pdf?src-supplier=Digi-Key; ComponentLink4Description: https://datasheet.ciiva.com/155/mlccorderingcode-155929.pdf?src-supplier=Digi-Key; ComponentLink5URL: https://datasheet.ciiva.com/155/mlccorderingcode-155930.pdf?src-supplier=Digi-Key; ComponentLink5Description: https://datasheet.ciiva.com/155/mlccorderingcode-155930.pdf?src-supplier=Digi-Key; ComponentLink6URL: https://datasheet.ciiva.com/155/mlccorderingcode-155931.pdf?src-supplier=Digi-Key; ComponentLink6Description: https://datasheet.ciiva.com/155/mlccorderingcode-155931.pdf?src-supplier=Digi-Key; ComponentLink7URL: https://datasheet.ciiva.com/46393/1734573-46393307.pdf?src-supplier=Element14; ComponentLink7Description: https://datasheet.ciiva.com/46393/1734573-46393307.pdf?src-supplier=Element14; ComponentLink8URL: https://datasheet.ciiva.com/16625/upy-gphc-x7r-6-3v-to-50v-8-16625549.pdf?src-supplier=Avnet+Europe; ComponentLink8Description: https://datasheet.ciiva.com/16625/upy-gphc-x7r-6-3v-to-50v-8-16625549.pdf?src-supplier=Avnet+Europe; ComponentLink9URL: https://datasheet.ciiva.com/29242/445210-da-01-en-kerko-chip-0805-x7r-0-1uf-10proz-50vg-29242074.pdf?src-supplier=Conrad; ComponentLink9Description: https://datasheet.ciiva.com/29242/445210-da-01-en-kerko-chip-0805-x7r-0-1uf-10proz-50vg-29242074.pdf?src-supplier=Conrad; Supplier Part Number 1: 311-1140-6-ND; Stock 1: 7118979; IPC7352C: done; SCHChecked: Initials after checked
footprint C0805 (Chip Capacitor, 2-Leads, Body 2,00x1,25mm, IPC Medium Density)
pins: 1, 2

## C_100uF/25V_A768EB107M1ELAE036
designator C?, comment 100uF/25V
Cap Alum Poly 100UF 20% 25V SMD; Manufacturer: KEMET; Manufacturer Part Number: A768EB107M1ELAE036; Supplier 1: Farnell; RoHS: Yes; Category: Polymer Capacitors; Pricing 1: 10000=0,15100 (EUR); Supplier Part Number 1: 4071179
footprint C_A768EB107M1ELAE036-100uF
pins: 1, 2
text: +; -

## C_100uF/63V_A780MS107M1JLAS030
designator C?, comment 100uF/63V
SMD Hybrid Aluminum Polymer Capacitor; Manufacturer: KEMET; Manufacturer Part Number: A780MS107M1JLAS030; Supplier 1: Farnell; RoHS: Yes; Category: Polymer Capacitors; Stock 1: 340; Pricing 1: 5=1,26000, 50=0,85500, 250=0,83300, 500=0,81000, 1000=0,78800, 2400=0,76500, 12000=0,75000 (EUR); Supplier Part Number 1: 3586367
footprint C_A780MS107M1JLAS030
pins: 1, 2
text: +; -

## C_100uF_865230245004
designator C?, comment 100uF/10V
Smd Aluminium Electrolytic Capacitor, Wcap-As5H Series, 100 F, 10 V, Radial Can - Smd, 6.3 Mm Rohs Compliant: Yes; Manufacturer: Wurth Electronics; Manufacturer Part Number: 865230245004; Life (Hours): 5000Hour; Ripple Current (AC): 79mA; Voltage Rating (DC): 10V; Capacitance: 100uF; Supplier 1: Farnell; RoHS: Yes; Category: Aluminum Electrolytic Capacitors; Stock 1: 126; Pricing 1: 1=0,45600, 5=0,40700, 10=0,35800, 20=0,35100 (EUR); Case/Package: Radial; Min Operating Temperature: -40°C; Max Operating Temperature: 105°C; Voltage Rating: 10V; Packaging: Cut Tape; Diameter: 6.3mm; Height: 7.7mm; REACH SVHC: Unknown; ComponentLink1URL: http://www.farnell.com/datasheets/1880257.pdf?src-supplier=Farnell; ComponentLink1Description: http://www.farnell.com/datasheets/1880257.pdf?src-supplier=Farnell; ComponentLink2URL: https://katalog.we-online.de/pbs/datasheet/865230245004.pdf?src-supplier=Digi-Key; ComponentLink2Description: https://katalog.we-online.de/pbs/datasheet/865230245004.pdf?src-supplier=Digi-Key; ComponentLink3URL: http://www.farnell.com/datasheets/1880257.pdf?src-supplier=Element14; ComponentLink3Description: http://www.farnell.com/datasheets/1880257.pdf?src-supplier=Element14; Supplier Part Number 1: 2466414
footprint WCAP-AS5H_D6.3H7.7 (Aluminum Electrolytic Capacitors, 6.3x7.7mm)
pins: 1, 2
text: +; -

## C_100uF_TAN_TAJD107K016RNJ
designator C?, comment 100uF / 16V
Cap Tant Solid 100uF 16V D CASE 10% (7.3 X 4.3 X 2.9mm) SMD 7343-31 0.6 Ohm 125C T/R; Manufacturer: Kyocera AVX; Manufacturer Part Number: TAJD107K016RNJ; Dielectric Material: Tantalum; ESR (Equivalent Series Resistance): 600mR; Leakage Current: 16uA; Dissipation Factor: 6%; Polarity: Polar; Supplier 1: Farnell; RoHS: Yes; Category: Tantalum Capacitors; Pricing 1: 1=0,98600, 10=0,68800, 50=0,44400, 100=0,35700, 200=0,35000 (EUR); Mount: Surface Mount,PCB; Case/Package: 2917; Number of Pins: 2; Case Code (Imperial): 2917; Case Code (Metric): 7343; Min Operating Temperature: -55°C; Max Operating Temperature: 125°C; Capacitance: 100uF; Tolerance: 10%; Packaging: Tape and Reel; Voltage Rating: 16V; Voltage Rating (DC): 16V; Package Quantity: 1; Termination: SMD/SMT; Voltage: 16V; Features: General Purpose; Length: 7.3mm; Width: 4.3mm; Height: 2.9mm; Depth: 4.3mm; Height - Seated (Max): 0.122inch; Radiation Hardening: No; Lead Free: Lead Free; REACH SVHC: No SVHC; ComponentLink1URL: https://datasheet.ciiva.com/11793/0900766b80ccdc61-11793278.pdf?src-supplier=RSComponents; ComponentLink1Description: https://datasheet.ciiva.com/11793/0900766b80ccdc61-11793278.pdf?src-supplier=RSComponents; ComponentLink2URL: https://datasheet.ciiva.com/26341/559463-da-01-en-tacc-d-7-3-mm-x-4-3-mm-x-2-9-mm-100-uf-26341798.pdf?src-supplier=Conrad; ComponentLink2Description: https://datasheet.ciiva.com/26341/559463-da-01-en-tacc-d-7-3-mm-x-4-3-mm-x-2-9-mm-100-uf-26341798.pdf?src-supplier=Conrad; ComponentLink3URL: https://datasheet.ciiva.com/3004/taj-3004512.pdf?src-supplier=Avnet; ComponentLink3Description: https://datasheet.ciiva.com/3004/taj-3004512.pdf?src-supplier=Avnet; ComponentLink4URL: https://datasheet.ciiva.com/264/taj-264340.pdf?src-supplier=Digi-Key; ComponentLink4Description: https://datasheet.ciiva.com/264/taj-264340.pdf?src-supplier=Digi-Key; ComponentLink5URL: https://datasheet.ciiva.com/264/taj-264341.pdf?src-supplier=Digi-Key; ComponentLink5Description: https://datasheet.ciiva.com/264/taj-264341.pdf?src-supplier=Digi-Key; ComponentLink6URL: https://datasheet.ciiva.com/16485/taj-16485829.pdf?src-supplier=Avnet+Asia; ComponentLink6Description: https://datasheet.ciiva.com/16485/taj-16485829.pdf?src-supplier=Avnet+Asia; ComponentLink7URL: https://datasheet.ciiva.com/264/taj-264342.pdf?src-supplier=Digi-Key; ComponentLink7Description: https://datasheet.ciiva.com/264/taj-264342.pdf?src-supplier=Digi-Key; ComponentLink8URL: https://datasheet.ciiva.com/18709/taj-eng-18709622.pdf?src-supplier=Distrelec; ComponentLink8Description: https://datasheet.ciiva.com/18709/taj-eng-18709622.pdf?src-supplier=Distrelec; ComponentLink9URL: https://datasheet.ciiva.com/14607/70001050-14607223.pdf?src-supplier=Allied+Electronics; ComponentLink9Description: https://datasheet.ciiva.com/14607/70001050-14607223.pdf?src-supplier=Allied+Electronics; ComponentLink10URL: https://datasheet.ciiva.com/16632/taj-16632700.pdf?src-supplier=Avnet+Europe; ComponentLink10Description: https://datasheet.ciiva.com/16632/taj-16632700.pdf?src-supplier=Avnet+Europe; ComponentLink11URL: https://datasheet.ciiva.com/6186/13070-6186749.pdf?src-supplier=Farnell; ComponentLink11Description: https://datasheet.ciiva.com/6186/13070-6186749.pdf?src-supplier=Farnell; ComponentLink12URL: https://datasheet.ciiva.com/3004/taj-3004511.pdf?src-supplier=Avnet; ComponentLink12Description: https://datasheet.ciiva.com/3004/taj-3004511.pdf?src-supplier=Avnet; Supplier Part Number 1: 197348
footprint C_TAJD107K016RNJ (Molded, 2-Leads, Body 7.5x4.5mm, IPC Medium Density)
pins: 1, 2
text: +

## C_120pF_08055C121KAT2A
designator C?, comment 120pF
Cap Ceramic 120pF 50V X7R 10% SMD 0805 125C T/R; Manufacturer: Kyocera AVX; Manufacturer Part Number: 08055C121KAT2A; Supplier 1: Mouser; RoHS: Yes; Category: Ceramic Capacitors; Stock 1: 17744; Mount: Surface Mount; Case/Package: 0805; Number of Pins: 2; Case Code (Metric): 2012; Case Code (Imperial): 0805; Weight: 0.000194oz; Min Operating Temperature: -55°C; Max Operating Temperature: 125°C; Package Quantity: 4000; Capacitance: 120pF; Tolerance: 10%; Packaging: Tape and Reel; Voltage Rating (DC): 50V; Dielectric: X7R; Termination: SMD/SMT; Voltage Rating: 50V; Length: 2.01mm; Width: 0.049inch; Depth: 1.25mm; Thickness: 0.037inch; Lead Free: Lead Free; REACH SVHC: Unknown; ComponentLink1URL: https://datasheet.ciiva.com/205/cx7r-205216.pdf?src-supplier=Digi-Key; ComponentLink1Description: https://datasheet.ciiva.com/205/cx7r-205216.pdf?src-supplier=Digi-Key; Supplier Part Number 1: 581-08055C121KAT2A
footprint C0805
pins: 1, 2

## C_220nF_C0805C224K5RACTU
designator C?, comment 220nF
CAP CER 0.22UF 50V X7R 0805; Manufacturer: KEMET; Manufacturer Part Number: C0805C224K5RACTU; Dielectric Material: Ceramic; Tolerance: 10%; Dissipation Factor: 2.5%; Supplier 1: Digi-Key; RoHS: Yes; Category: Ceramic Capacitors; Stock 1: 1337737; Pricing 1: 1=0,20000, 10=0,13900, 100=0,06550, 500=0,04592, 1000=0,03802 (USD); Mount: Surface Mount,PCB; Case/Package: 0805; Case Code (Metric): 2012; Case Code (Imperial): 0805; Min Operating Temperature: -55°C; Max Operating Temperature: 125°C; Package Quantity: 1; Capacitance: 220nF; Voltage Rating: 50V; Packaging: Tape and Reel; Voltage Rating (DC): 50V; Dielectric: X7R; Termination: SMD/SMT; Voltage: 50V; Length: 2mm; Height: 1.1mm; Width: 0.049inch; Thickness: 0.055inch; Lead Pitch: 0.75mm; Depth: 1.25mm; Radiation Hardening: No; REACH SVHC: No SVHC; ComponentLink1URL: https://datasheet.ciiva.com/7842/kem-c1002-x7r-smd-7842582.pdf?src-supplier=Element14; ComponentLink1Description: https://datasheet.ciiva.com/7842/kem-c1002-x7r-smd-7842582.pdf?src-supplier=Element14; ComponentLink2URL: https://datasheet.ciiva.com/18193/getdatasheetpartid-304413-18193686.pdf?src-supplier=Verical; ComponentLink2Description: https://datasheet.ciiva.com/18193/getdatasheetpartid-304413-18193686.pdf?src-supplier=Verical; ComponentLink3URL: https://datasheet.ciiva.com/28682/1851736-28682316.pdf?src-supplier=Element14; ComponentLink3Description: https://datasheet.ciiva.com/28682/1851736-28682316.pdf?src-supplier=Element14; Supplier Part Number 1: 399-3491-1-ND
footprint C0805 (Chip Capacitor, 2-Leads, Body 2,00x1,25mm, IPC Medium Density)
pins: 1, 2

## C_220pF_C0805C221K5RACTU
designator C?, comment 220pF
KEMET         C0805C221K5RACTU            CERAMIC CAPACITOR, 220PF, 50V, X7R, 10%, 0805, FULL REEL; Dissipation Factor: 2.5%; Supplier 1: Farnell; Manufacturer: KEMET; Manufacturer Part Number: C0805C221K5RACTU; RoHS: Yes; Category: Ceramic Capacitors; Stock 1: 4728; Pricing 1: 10=0,16200, 100=0,10800, 500=0,05420, 1000=0,04340, 2000=0,03610, 4000=0,02890, 20000=0,01730 (EUR); Mount: Surface Mount,PCB; Case/Package: 0805; Number of Pins: 2; Case Code (Metric): 2012; Case Code (Imperial): 0805; Dielectric Material: Ceramic; Min Operating Temperature: -55°C; Max Operating Temperature: 125°C; Packaging: Tape and Reel; Capacitance: 220pF; Tolerance: 10%; Package Quantity: 1; Voltage Rating: 50V; Dielectric: X7R; Voltage Rating (DC): 50V; Termination: SMD/SMT; Series: C; Construction: Flat; Voltage: 50V; Length: 2mm; Width: 0.049inch; Height: 0.78mm; Thickness: 0.035inch; Depth: 1.25mm; Lead Pitch: 0.75mm; Radiation Hardening: No; RoHS Compliant: Yes; REACH SVHC: No SVHC; ComponentLink1URL: https://datasheet.ciiva.com/7842/1851736-7842261.pdf?src-supplier=Element14; ComponentLink1Description: https://datasheet.ciiva.com/7842/1851736-7842261.pdf?src-supplier=Element14; ComponentLink2URL: https://datasheet.ciiva.com/14602/70095383-14602616.pdf?src-supplier=Allied+Electronics; ComponentLink2Description: https://datasheet.ciiva.com/14602/70095383-14602616.pdf?src-supplier=Allied+Electronics; ComponentLink3URL: https://datasheet.ciiva.com/5969/kem-c1002-x7r-smd-5969820.pdf?src-supplier=Farnell; ComponentLink3Description: https://datasheet.ciiva.com/5969/kem-c1002-x7r-smd-5969820.pdf?src-supplier=Farnell; ComponentLink4URL: https://datasheet.ciiva.com/7842/kem-c1002-x7r-smd-7842573.pdf?src-supplier=Element14; ComponentLink4Description: https://datasheet.ciiva.com/7842/kem-c1002-x7r-smd-7842573.pdf?src-supplier=Element14; ComponentLink5URL: https://datasheet.ciiva.com/7842/1918693-7842574.pdf?src-supplier=Element14; ComponentLink5Description: https://datasheet.ciiva.com/7842/1918693-7842574.pdf?src-supplier=Element14; Supplier Part Number 1: 1414680
footprint C0805
pins: 1, 2

## C_220uF_TAN_TPSD227M010R0100
designator C?, comment 220uF
CAPACITOR, TANTALUM; Manufacturer: Kyocera AVX; Manufacturer Part Number: TPSD227M010R0100; Voltage Rating: 10V; Tolerance: 20%; ESR (Equivalent Series Resistance): 100mR; Ripple Current: 490uA; Leakage Current: 22uA; Polarity: Polar; Dissipation Factor: 8%; Supplier 1: Digi-Key; RoHS: Yes; Category: Tantalum Capacitors; Stock 1: 5000; Pricing 1: 1=2,79000, 10=2,25600, 100=1,72250 (USD); Mount: Surface Mount; Case/Package: 7343-31; Number of Pins: 2; Case Code (Metric): 7343; Case Code (Imperial): 2917; Dielectric Material: Tantalum; Min Operating Temperature: -55°C; Max Operating Temperature: 125°C; Package Quantity: 1; Capacitance: 220uF; Packaging: Tape and Reel; Termination: SMD/SMT; Features: General Purpose; Voltage Rating (DC): 10V; Length: 7.3mm; Height: 2.9mm; Width: 0.169inch; Height - Seated (Max): 0.122inch; Depth: 4.3mm; Radiation Hardening: No; REACH SVHC: No SVHC; Lead Free: Lead Free; ComponentLink1URL: https://datasheet.ciiva.com/27051/1154301-27051500.pdf?src-supplier=Jameco; ComponentLink1Description: https://datasheet.ciiva.com/27051/1154301-27051500.pdf?src-supplier=Jameco; ComponentLink2URL: https://datasheet.ciiva.com/26787/tpsd227m010r0100-26787075.pdf?src-supplier=IIIC; ComponentLink2Description: https://datasheet.ciiva.com/26787/tpsd227m010r0100-26787075.pdf?src-supplier=IIIC; ComponentLink3URL: https://datasheet.ciiva.com/265/tps-265200.pdf?src-supplier=Digi-Key; ComponentLink3Description: https://datasheet.ciiva.com/265/tps-265200.pdf?src-supplier=Digi-Key; ComponentLink4URL: https://datasheet.ciiva.com/265/tps-265201.pdf?src-supplier=Digi-Key; ComponentLink4Description: https://datasheet.ciiva.com/265/tps-265201.pdf?src-supplier=Digi-Key; ComponentLink5URL: https://datasheet.ciiva.com/265/tps-265199.pdf?src-supplier=Digi-Key; ComponentLink5Description: https://datasheet.ciiva.com/265/tps-265199.pdf?src-supplier=Digi-Key; ComponentLink6URL: https://datasheet.ciiva.com/5935/1441576-5935727.pdf?src-supplier=Farnell; ComponentLink6Description: https://datasheet.ciiva.com/5935/1441576-5935727.pdf?src-supplier=Farnell; Supplier Part Number 1: 478-4110-1-ND
footprint C_220uF_TAN_TPSD227M010R0100
pins: 1, 2
text: +